# Altium schematic symbol library DIP Capacitors.SchLib: 6 symbols
Pins are listed as number, name and electrical type; pins without a type are passive.

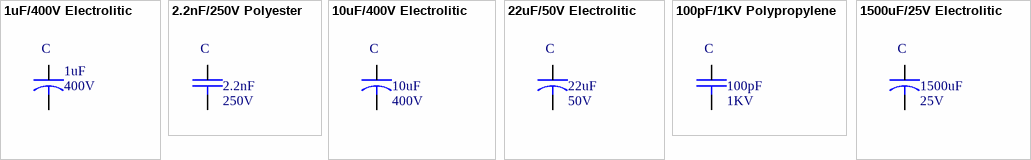
[diagram p0: symbols 1uF/400V Electrolitic to 1500uF/25V Electrolitic]

## 1uF/400V Electrolitic
designator C  value 1uF  Voltage: 400V  (hidden comment: *)
Manufacturer: Panasonic; Manufacturer Code: ECA2GH010; Farnell Code: 9693319; Unit Price: 0,192 €
footprint 1uF/400V (Footprint not found)
pins: 1, 2

## 2.2nF/250V Polyester
designator C  value 2.2nF  Voltage: 250V  (hidden comment: *)
Manufacturer: KEMET; Manufacturer Code: RSBIC1220Z300K; Farnell Code: 2446355; Unit Price: 0,146 €; MOQ: 5
footprint Polyester 7.2x6.5x2.2
pins: 1, 2

## 10uF/400V Electrolitic
designator C  value 10uF  Voltage: 400V  (hidden comment: *)
Manufacturer: PANASONIC; Manufacturer Code: EEUED2G100; Farnell Code: 9696466; Unit Price: 0,70 €
footprint Radial 10x20mm
footprint Radial 10x20mm Horizantal (Footprint not found)
pins: 1, 2

## 22uF/50V Electrolitic
designator C  value 22uF  Voltage: 50V  (hidden comment: *)
Manufacturer: PANASONIC; Manufacturer Code: EEUEFR1H220; Farnell Code: 2063079; Unit Price: 0,138 €
footprint Radial 5x11mm (Footprint not found)
pins: 1, 2

## 100pF/1KV Polypropylene
designator C  value 100pF  Voltage: 1KV  (hidden comment: *)
Manufacturer: WIMA; Manufacturer Code: FKP2O101001D00JSSD; Farnell Code: 1519280; Unit Price: 0,37 €; MOQ: 1
footprint Polyester 7.2x6.5x2.2
pins: 1, 2

## 1500uF/25V Electrolitic
designator C  value 1500uF  Voltage: 25V  (hidden comment: *)
Manufacturer: PANASONIC; Manufacturer Code: EEUEFR1E152; Farnell Code: 1800655; Unit Price: 0,88 €
footprint Radial 12.5x20mm (Footprint not found)
pins: 1, 2